# Altium schematic symbol library JST-XH TH 2.50mm 3-pos Straight.Schlib: 1 symbol
Pins are listed as number, name and electrical type; pins without a type are passive.

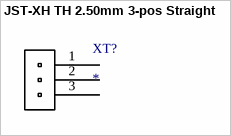
[diagram p0: symbol JST-XH TH 2.50mm 3-pos Straight]

## JST-XH TH 2.50mm 3-pos Straight
designator XT?
XH Header Male Pin 0.098"(2.50mm) 3 Through Hole,P=2.5mm Wire To Board / Wire To Wire Connector RoHS; ComponentLink1Description: LCSC - JST B3B-XH-AM; ComponentLink1URL: https://lcsc.com/product-detail/Wire-To-Board-Wire-To-Wire-Connector_JST-Sales-America-B3B-XH-AM-LF-SN_C161870.html; LCSC Part #: C161870; JLCPCB Part Type: Extended
footprint JST-XH TH 2.5mm 3-pos
pins: 1, 2, 3